# EAGLE library part DRV_SPEAKER_NS4251 (library !GPLIB_ACTIVE)
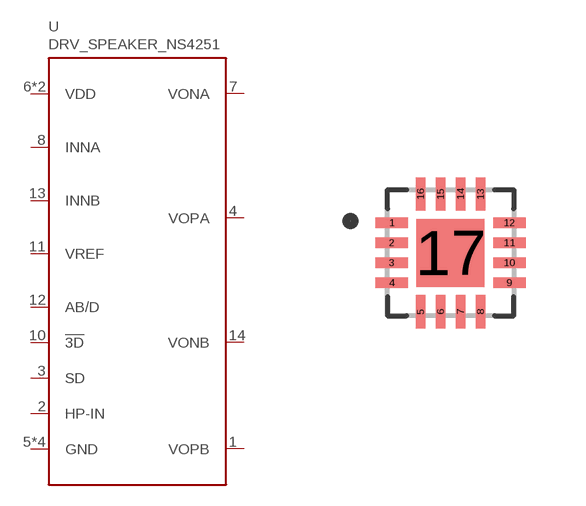
[diagram p15: symbol with the pads of QFN50P300X300X80-17N; footprint QFN50P300X300X80-17N]

Designator prefix U

## DRV_SPEAKER_NS4251"  [QFN50P300X300X80-17N]
1  VOPB  out
2  HP-IN  in
3  SD  in
4  VOPA  out
5  GND  pwr
6  VDD  pwr
7  VONA  out
8  INNA  in
9  GND  pwr
10  !3D  in
11  VREF  out
12  AB/D  in
13  INNB  in
14  VONB  out
15  VDD  pwr
16  GND  pwr
17  GND  pwr

## Footprint QFN50P300X300X80-17N (pad centres in mm)
smd 0.83 x 0.26: 1 -1.47,0.75; 2 -1.47,0.25; 3 -1.47,-0.25; 4 -1.47,-0.75; 9 1.47,-0.75; 10 1.47,-0.25; 11 1.47,0.25; 12 1.47,0.75
smd 0.26 x 0.83: 5 -0.75,-1.47; 6 -0.25,-1.47; 7 0.25,-1.47; 8 0.75,-1.47; 13 0.75,1.47; 14 0.25,1.47; 15 -0.25,1.47; 16 -0.75,1.47
smd 1.7 x 1.7: 17 0,0